# EAGLE library part CF2* (library relay)
NEW DUAL POWER AUTOMOTIVE RELAY NAiS Source: http://www.mew-europe.com/.. en_ds_61203_0000.pdf
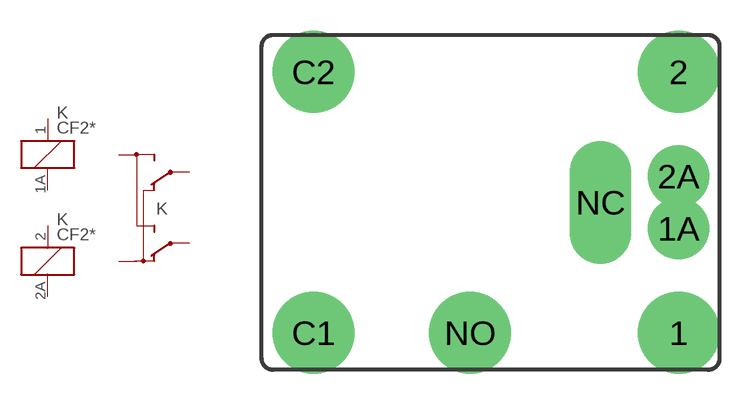
[diagram p83: symbol with the pads of CF; footprint CF]

Designator prefix K; gates 1-1=K 1-2=K 2=CF

## CF2-12V (OC_FARNELL: unknown; OC_NEWARK: unknown)  [CF]
1  1-1:1  pas
1A  1-1:2  pas
2  1-2:1  pas
2A  1-2:2  pas
C1  2:COM1  pas
C2  2:COM2  pas
NC  2:NC  pas
NO  2:NO  pas

## Footprint CF (pad centres in mm)
NEW DUAL POWER AUTOMOTIVE RELAY NAiS Source: http://www.mew-europe.com/.. en_ds_61203_0000.pdf
drill 1.5 pad 4: 1 9.16,-6.35; 2 9.16,6.35; C1 -8.62,-6.35; C2 -8.62,6.35; NO -1,-6.35
drill 1.5 pad 3: 1A 9.16,-1.27; 2A 9.16,1.27
drill 1.5 pad 3 long: NC 5.35,0